# Altium footprint library Discrete_Passive.PcbLib: 311 footprints (part 17 of 20)
Each footprint in its own frame and in the unit in brackets; x right, y up, seen from the top. Pads: shape width x height; smd on the part's side, far side on the other; paste and mask are expansions set on the pad; w line width, h text height; cw(c..) or ccw(c..) is an arc to the next point about the centre after c.
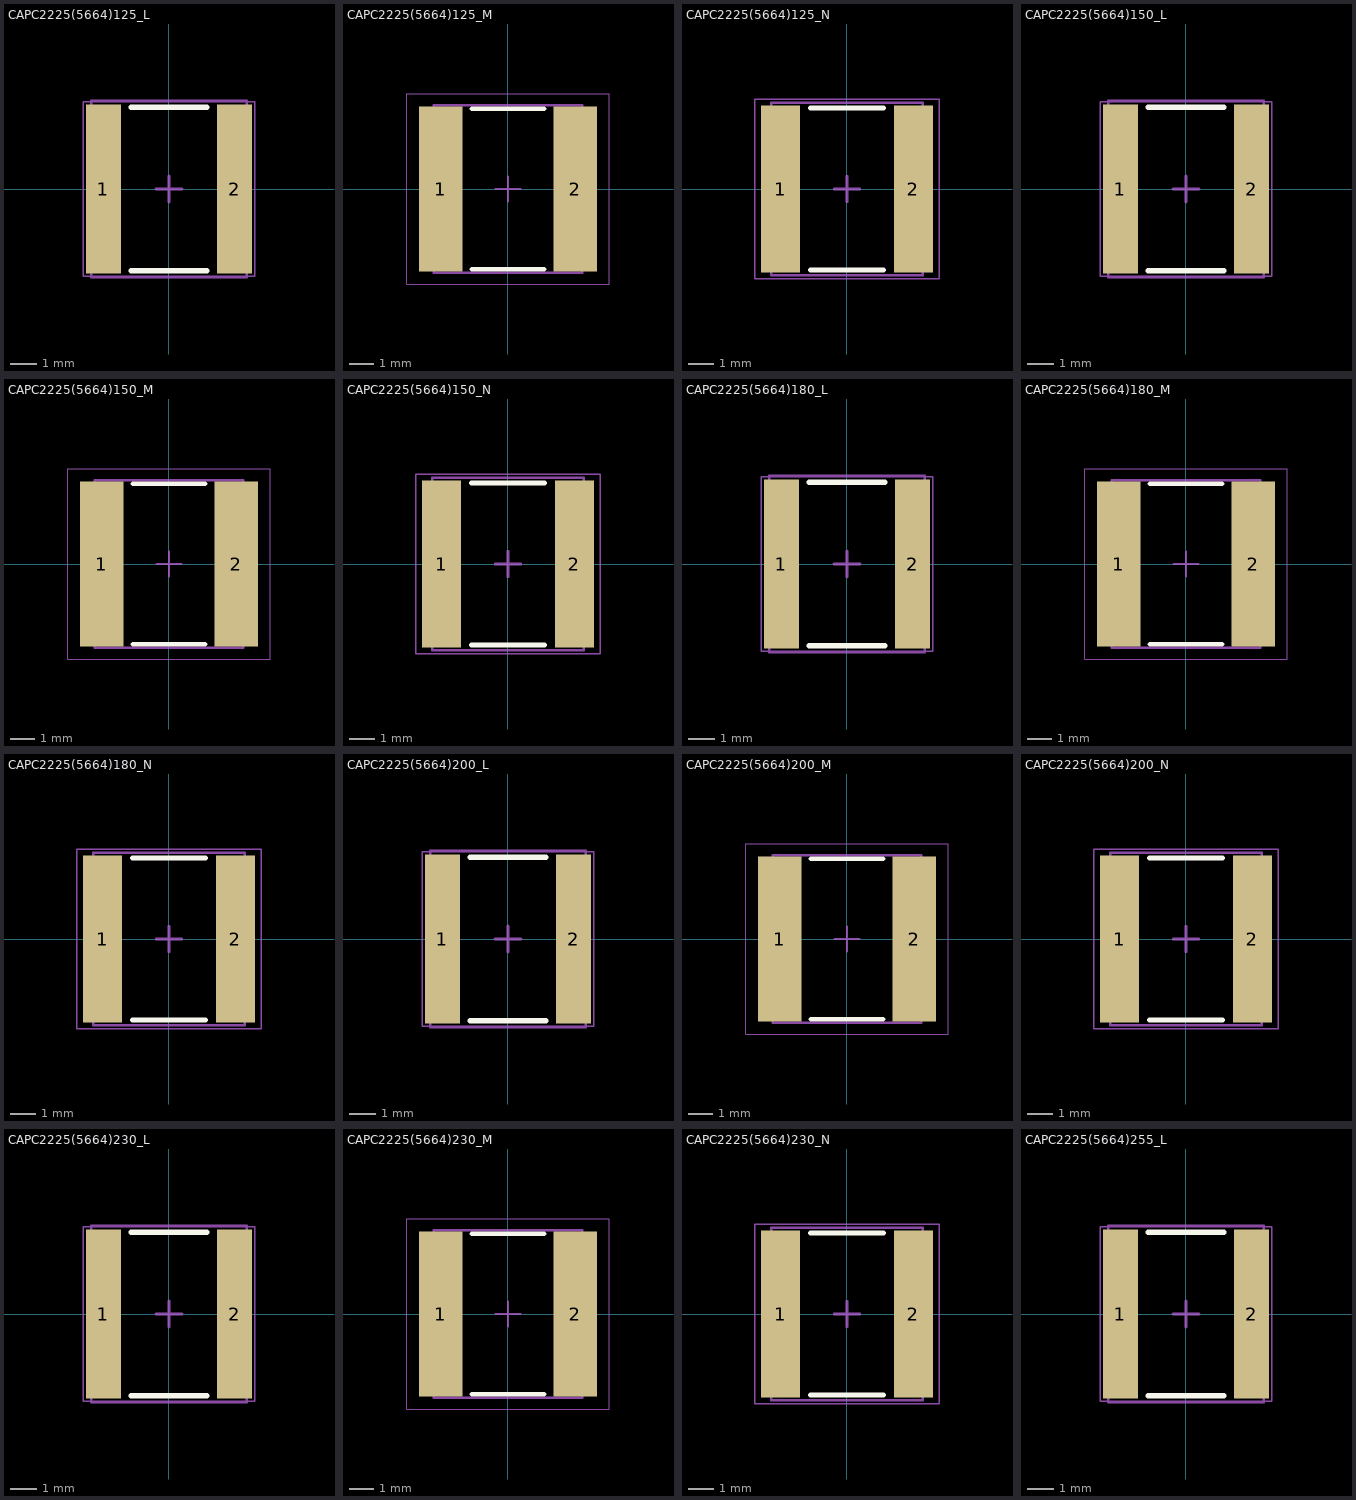
[diagram p16: the footprints below, top view; thin cyan lines are the x and y axes]

## CAPC2225(5664)125_L [mm] "Chip Capacitor, Body 5.7x6.4mm, Height 1.25mm, IPC High Density"
height 1.25
pads (2):
  rect 1.35x6.5 smd: 1(-2.525,0) 2(2.525,0)
Top Overlay:
  lines w0.2: -1.45,-3.15 1.45,-3.15 ; -1.45,3.15 1.45,3.15
Mechanical 13:
  lines w0.1: -3,-3.4 3,-3.4 3,3.4 -3,3.4 -3,-3.4
Mechanical 15:
  lines w0.05: -3.3,-3.35 3.3,-3.35 3.3,3.35 -3.3,3.35 -3.3,-3.35
  lines w0.1: -0.5,0 0.5,0 ; 0,-0.5 0,0.5
3D body: height 1.25, standoff 0, extent 2.4,-3.4 3,3.4
3D body: height 1.25, standoff 0, extent -3,-3.4 -2.4,3.4
3D body: height 1.25, standoff 0, extent -2.4,-3.4 2.4,3.4

## CAPC2225(5664)125_M [mm] "Chip Capacitor, Body 5.7x6.4mm, Height 1.25mm, IPC Low Density"
height 1.25
pads (2):
  rect 1.75x6.7 smd: 1(-2.725,0) 2(2.725,0)
Top Overlay:
  lines w0.2: -1.45,-3.25 1.45,-3.25 ; -1.45,3.25 1.45,3.25
Mechanical 13:
  lines w0.1: -3,-3.4 -3,3.4 3,3.4 3,-3.4 -3,-3.4
Mechanical 15:
  lines w0.05: -4.1,-3.85 -4.1,3.85 4.1,3.85 4.1,-3.85 -4.1,-3.85
  lines w0.1: -0.5,0 0.5,0 ; 0,-0.5 0,0.5
3D body: height 1.25, standoff 0, extent -2.4,-3.4 2.4,3.4
3D body: height 1.25, standoff 0, extent -3,-3.4 -2.4,3.4
3D body: height 1.25, standoff 0, extent 2.4,-3.4 3,3.4

## CAPC2225(5664)125_N [mm] "Chip Capacitor, Body 5.7x6.4mm, Height 1.25mm, IPC Medium Density"
height 1.25
pads (2):
  rect 1.55x6.6 smd: 1(-2.625,0) 2(2.625,0)
Top Overlay:
  lines w0.2: -1.45,-3.2 1.45,-3.2 ; -1.45,3.2 1.45,3.2
Mechanical 13:
  lines w0.1: -3,-3.4 3,-3.4 3,3.4 -3,3.4 -3,-3.4
Mechanical 15:
  lines w0.05: -3.65,-3.55 3.65,-3.55 3.65,3.55 -3.65,3.55 -3.65,-3.55
  lines w0.1: -0.5,0 0.5,0 ; 0,-0.5 0,0.5
3D body: height 1.25, standoff 0, extent 2.4,-3.4 3,3.4
3D body: height 1.25, standoff 0, extent -3,-3.4 -2.4,3.4
3D body: height 1.25, standoff 0, extent -2.4,-3.4 2.4,3.4

## CAPC2225(5664)150_L [mm] "Chip Capacitor, Body 5.7x6.4mm, Height 1.5mm, IPC High Density"
height 1.5
pads (2):
  rect 1.35x6.5 smd: 1(-2.525,0) 2(2.525,0)
Top Overlay:
  lines w0.2: -1.45,-3.15 1.45,-3.15 ; -1.45,3.15 1.45,3.15
Mechanical 13:
  lines w0.1: -3,-3.4 3,-3.4 3,3.4 -3,3.4 -3,-3.4
Mechanical 15:
  lines w0.05: -3.3,-3.35 3.3,-3.35 3.3,3.35 -3.3,3.35 -3.3,-3.35
  lines w0.1: -0.5,0 0.5,0 ; 0,-0.5 0,0.5
3D body: height 1.5, standoff 0, extent 2.4,-3.4 3,3.4
3D body: height 1.5, standoff 0, extent -3,-3.4 -2.4,3.4
3D body: height 1.5, standoff 0, extent -2.4,-3.4 2.4,3.4

## CAPC2225(5664)150_M [mm] "Chip Capacitor, Body 5.7x6.4mm, Height 1.5mm, IPC Low Density"
height 1.5
pads (2):
  rect 1.75x6.7 smd: 1(-2.725,0) 2(2.725,0)
Top Overlay:
  lines w0.2: -1.45,-3.25 1.45,-3.25 ; -1.45,3.25 1.45,3.25
Mechanical 13:
  lines w0.1: -3,-3.4 3,-3.4 3,3.4 -3,3.4 -3,-3.4
Mechanical 15:
  lines w0.05: -4.1,-3.85 4.1,-3.85 4.1,3.85 -4.1,3.85 -4.1,-3.85
  lines w0.1: -0.5,0 0.5,0 ; 0,-0.5 0,0.5
3D body: height 1.5, standoff 0, extent 2.4,-3.4 3,3.4
3D body: height 1.5, standoff 0, extent -3,-3.4 -2.4,3.4
3D body: height 1.5, standoff 0, extent -2.4,-3.4 2.4,3.4

## CAPC2225(5664)150_N [mm] "Chip Capacitor, Body 5.7x6.4mm, Height 1.5mm, IPC Medium Density"
height 1.5
pads (2):
  rect 1.55x6.6 smd: 1(-2.625,0) 2(2.625,0)
Top Overlay:
  lines w0.2: -1.45,-3.2 1.45,-3.2 ; -1.45,3.2 1.45,3.2
Mechanical 13:
  lines w0.1: -3,-3.4 -3,3.4 3,3.4 3,-3.4 -3,-3.4
Mechanical 15:
  lines w0.05: -3.65,-3.55 -3.65,3.55 3.65,3.55 3.65,-3.55 -3.65,-3.55
  lines w0.1: -0.5,0 0.5,0 ; 0,-0.5 0,0.5
3D body: height 1.5, standoff 0, extent -2.4,-3.4 2.4,3.4
3D body: height 1.5, standoff 0, extent -3,-3.4 -2.4,3.4
3D body: height 1.5, standoff 0, extent 2.4,-3.4 3,3.4

## CAPC2225(5664)180_L [mm] "Chip Capacitor, Body 5.7x6.4mm, Height 1.8mm, IPC High Density"
height 1.8
pads (2):
  rect 1.35x6.5 smd: 1(-2.525,0) 2(2.525,0)
Top Overlay:
  lines w0.2: -1.45,-3.15 1.45,-3.15 ; -1.45,3.15 1.45,3.15
Mechanical 13:
  lines w0.1: -3,-3.4 -3,3.4 3,3.4 3,-3.4 -3,-3.4
Mechanical 15:
  lines w0.05: -3.3,-3.35 -3.3,3.35 3.3,3.35 3.3,-3.35 -3.3,-3.35
  lines w0.1: -0.5,0 0.5,0 ; 0,-0.5 0,0.5
3D body: height 1.8, standoff 0, extent -2.4,-3.4 2.4,3.4
3D body: height 1.8, standoff 0, extent -3,-3.4 -2.4,3.4
3D body: height 1.8, standoff 0, extent 2.4,-3.4 3,3.4

## CAPC2225(5664)180_M [mm] "Chip Capacitor, Body 5.7x6.4mm, Height 1.8mm, IPC Low Density"
height 1.8
pads (2):
  rect 1.75x6.7 smd: 1(-2.725,0) 2(2.725,0)
Top Overlay:
  lines w0.2: -1.45,-3.25 1.45,-3.25 ; -1.45,3.25 1.45,3.25
Mechanical 13:
  lines w0.1: -3,-3.4 3,-3.4 3,3.4 -3,3.4 -3,-3.4
Mechanical 15:
  lines w0.05: -4.1,-3.85 4.1,-3.85 4.1,3.85 -4.1,3.85 -4.1,-3.85
  lines w0.1: -0.5,0 0.5,0 ; 0,-0.5 0,0.5
3D body: height 1.8, standoff 0, extent 2.4,-3.4 3,3.4
3D body: height 1.8, standoff 0, extent -3,-3.4 -2.4,3.4
3D body: height 1.8, standoff 0, extent -2.4,-3.4 2.4,3.4

## CAPC2225(5664)180_N [mm] "Chip Capacitor, Body 5.7x6.4mm, Height 1.8mm, IPC Medium Density"
height 1.8
pads (2):
  rect 1.55x6.6 smd: 1(-2.625,0) 2(2.625,0)
Top Overlay:
  lines w0.2: -1.45,-3.2 1.45,-3.2 ; -1.45,3.2 1.45,3.2
Mechanical 13:
  lines w0.1: -3,-3.4 3,-3.4 3,3.4 -3,3.4 -3,-3.4
Mechanical 15:
  lines w0.05: -3.65,-3.55 3.65,-3.55 3.65,3.55 -3.65,3.55 -3.65,-3.55
  lines w0.1: -0.5,0 0.5,0 ; 0,-0.5 0,0.5
3D body: height 1.8, standoff 0, extent 2.4,-3.4 3,3.4
3D body: height 1.8, standoff 0, extent -3,-3.4 -2.4,3.4
3D body: height 1.8, standoff 0, extent -2.4,-3.4 2.4,3.4

## CAPC2225(5664)200_L [mm] "Chip Capacitor, Body 5.7x6.4mm, Height 2mm, IPC High Density"
height 2
pads (2):
  rect 1.35x6.5 smd: 1(-2.525,0) 2(2.525,0)
Top Overlay:
  lines w0.2: -1.45,-3.15 1.45,-3.15 ; -1.45,3.15 1.45,3.15
Mechanical 13:
  lines w0.1: -3,-3.4 3,-3.4 3,3.4 -3,3.4 -3,-3.4
Mechanical 15:
  lines w0.05: -3.3,-3.35 3.3,-3.35 3.3,3.35 -3.3,3.35 -3.3,-3.35
  lines w0.1: -0.5,0 0.5,0 ; 0,-0.5 0,0.5
3D body: height 2, standoff 0, extent 2.4,-3.4 3,3.4
3D body: height 2, standoff 0, extent -3,-3.4 -2.4,3.4
3D body: height 2, standoff 0, extent -2.4,-3.4 2.4,3.4

## CAPC2225(5664)200_M [mm] "Chip Capacitor, Body 5.7x6.4mm, Height 2mm, IPC Low Density"
height 2
pads (2):
  rect 1.75x6.7 smd: 1(-2.725,0) 2(2.725,0)
Top Overlay:
  lines w0.2: -1.45,-3.25 1.45,-3.25 ; -1.45,3.25 1.45,3.25
Mechanical 13:
  lines w0.1: -3,-3.4 3,-3.4 3,3.4 -3,3.4 -3,-3.4
Mechanical 15:
  lines w0.05: -4.1,-3.85 4.1,-3.85 4.1,3.85 -4.1,3.85 -4.1,-3.85
  lines w0.1: -0.5,0 0.5,0 ; 0,-0.5 0,0.5
3D body: height 2, standoff 0, extent 2.4,-3.4 3,3.4
3D body: height 2, standoff 0, extent -3,-3.4 -2.4,3.4
3D body: height 2, standoff 0, extent -2.4,-3.4 2.4,3.4

## CAPC2225(5664)200_N [mm] "Chip Capacitor, Body 5.7x6.4mm, Height 2mm, IPC Medium Density"
height 2
pads (2):
  rect 1.55x6.6 smd: 1(-2.625,0) 2(2.625,0)
Top Overlay:
  lines w0.2: -1.45,-3.2 1.45,-3.2 ; -1.45,3.2 1.45,3.2
Mechanical 13:
  lines w0.1: -3,-3.4 3,-3.4 3,3.4 -3,3.4 -3,-3.4
Mechanical 15:
  lines w0.05: -3.65,-3.55 3.65,-3.55 3.65,3.55 -3.65,3.55 -3.65,-3.55
  lines w0.1: -0.5,0 0.5,0 ; 0,-0.5 0,0.5
3D body: height 2, standoff 0, extent 2.4,-3.4 3,3.4
3D body: height 2, standoff 0, extent -3,-3.4 -2.4,3.4
3D body: height 2, standoff 0, extent -2.4,-3.4 2.4,3.4

## CAPC2225(5664)230_L [mm] "Chip Capacitor, Body 5.7x6.4mm, Height 2.3mm, IPC High Density"
height 2.3
pads (2):
  rect 1.35x6.5 smd: 1(-2.525,0) 2(2.525,0)
Top Overlay:
  lines w0.2: -1.45,-3.15 1.45,-3.15 ; -1.45,3.15 1.45,3.15
Mechanical 13:
  lines w0.1: -3,-3.4 3,-3.4 3,3.4 -3,3.4 -3,-3.4
Mechanical 15:
  lines w0.05: -3.3,-3.35 3.3,-3.35 3.3,3.35 -3.3,3.35 -3.3,-3.35
  lines w0.1: -0.5,0 0.5,0 ; 0,-0.5 0,0.5
3D body: height 2.3, standoff 0, extent 2.4,-3.4 3,3.4
3D body: height 2.3, standoff 0, extent -3,-3.4 -2.4,3.4
3D body: height 2.3, standoff 0, extent -2.4,-3.4 2.4,3.4

## CAPC2225(5664)230_M [mm] "Chip Capacitor, Body 5.7x6.4mm, Height 2.3mm, IPC Low Density"
height 2.3
pads (2):
  rect 1.75x6.7 smd: 1(-2.725,0) 2(2.725,0)
Top Overlay:
  lines w0.2: -1.45,-3.25 1.45,-3.25 ; -1.45,3.25 1.45,3.25
Mechanical 13:
  lines w0.1: -3,-3.4 3,-3.4 3,3.4 -3,3.4 -3,-3.4
Mechanical 15:
  lines w0.05: -4.1,-3.85 4.1,-3.85 4.1,3.85 -4.1,3.85 -4.1,-3.85
  lines w0.1: -0.5,0 0.5,0 ; 0,-0.5 0,0.5
3D body: height 2.3, standoff 0, extent 2.4,-3.4 3,3.4
3D body: height 2.3, standoff 0, extent -3,-3.4 -2.4,3.4
3D body: height 2.3, standoff 0, extent -2.4,-3.4 2.4,3.4

## CAPC2225(5664)230_N [mm] "Chip Capacitor, Body 5.7x6.4mm, Height 2.3mm, IPC Medium Density"
height 2.3
pads (2):
  rect 1.55x6.6 smd: 1(-2.625,0) 2(2.625,0)
Top Overlay:
  lines w0.2: -1.45,-3.2 1.45,-3.2 ; -1.45,3.2 1.45,3.2
Mechanical 13:
  lines w0.1: -3,-3.4 3,-3.4 3,3.4 -3,3.4 -3,-3.4
Mechanical 15:
  lines w0.05: -3.65,-3.55 3.65,-3.55 3.65,3.55 -3.65,3.55 -3.65,-3.55
  lines w0.1: -0.5,0 0.5,0 ; 0,-0.5 0,0.5
3D body: height 2.3, standoff 0, extent 2.4,-3.4 3,3.4
3D body: height 2.3, standoff 0, extent -3,-3.4 -2.4,3.4
3D body: height 2.3, standoff 0, extent -2.4,-3.4 2.4,3.4

## CAPC2225(5664)255_L [mm] "Chip Capacitor, Body 5.7x6.4mm, Height 2.55mm, IPC High Density"
height 2.55
pads (2):
  rect 1.35x6.5 smd: 1(-2.525,0) 2(2.525,0)
Top Overlay:
  lines w0.2: -1.45,-3.15 1.45,-3.15 ; -1.45,3.15 1.45,3.15
Mechanical 13:
  lines w0.1: -3,-3.4 3,-3.4 3,3.4 -3,3.4 -3,-3.4
Mechanical 15:
  lines w0.05: -3.3,-3.35 3.3,-3.35 3.3,3.35 -3.3,3.35 -3.3,-3.35
  lines w0.1: -0.5,0 0.5,0 ; 0,-0.5 0,0.5
3D body: height 2.55, standoff 0, extent 2.4,-3.4 3,3.4
3D body: height 2.55, standoff 0, extent -3,-3.4 -2.4,3.4
3D body: height 2.55, standoff 0, extent -2.4,-3.4 2.4,3.4